# Altium schematic symbol library icx493.SchLib: 1 symbol
Pins are listed as number, name and electrical type; pins without a type are passive.

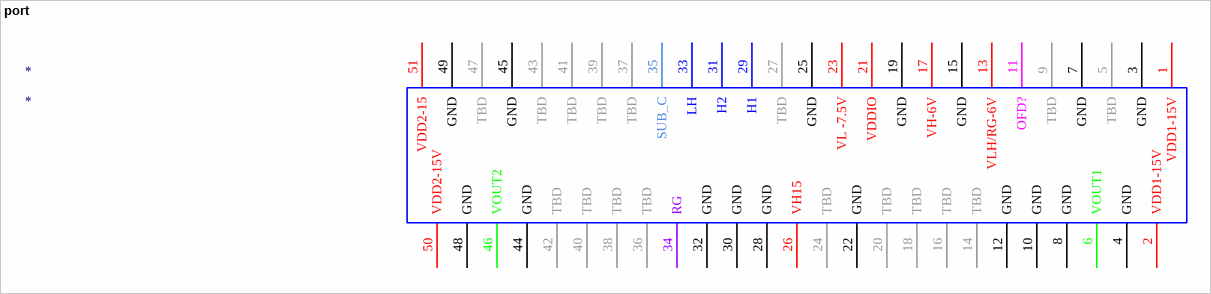
[diagram p0: symbol port]

## port
designator *
pins: 1 VDD1-15V, 2 VDD1-15V, 3 GND, 4 GND, 5 TBD, 6 VOUT1, 7 GND, 8 GND, 9 TBD, 10 GND, 11 OFD?, 12 GND, 13 VLH/RG-6V, 14 TBD, 15 GND, 16 TBD, 17 VH-6V, 18 TBD, 19 GND, 20 TBD, 21 VDDIO, 22 GND, 23 VL -7.5V, 24 TBD, 25 GND, 26 VH15, 27 TBD, 28 GND, 29 H1, 30 GND, 31 H2, 32 GND, 33 LH, 34 RG, 35 SUB_C, 36 TBD, 37 TBD, 38 TBD, 39 TBD, 40 TBD, 41 TBD, 42 TBD, 43 TBD, 44 GND, 45 GND, 46 VOUT2, 47 TBD, 48 GND, 49 GND, 50 VDD2-15V, 51 VDD2-15